# EAGLE library part L834-1G1T-S7 (library Modular Jacks)
CONN MAGJACK 1PORT 1000 BASE-T Manufacturer's datasheet <https://belfuse.com/resources/drawings/magneticsolutions/dr-mag-l834-1g1t-s7.pdf>
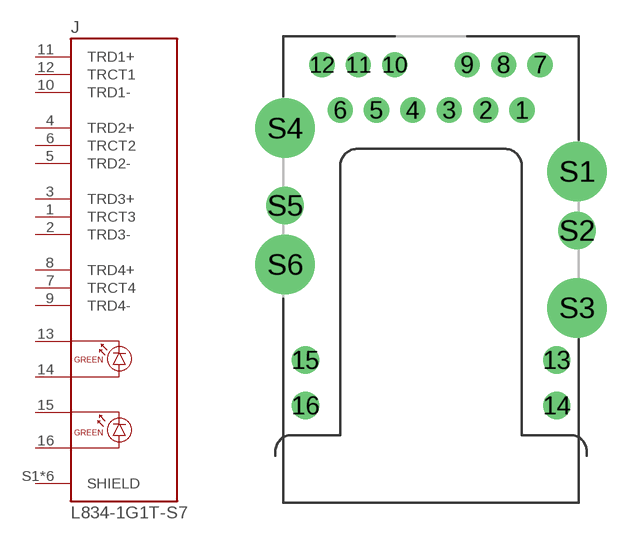
[diagram p0: symbol with the pads of L834-1G1T-S7; footprint L834-1G1T-S7]

Designator prefix J

## L834-1G1T-S7 (CREATED_BY: PCBLayout.com; DIGIKEY_PN: 380-1111-ND; MANUFACTURER: Bel Fuse Inc.; MPN: L834-1G1T-S7)  [L834-1G1T-S7]
1  TRCT3  pas
2  TRD3-  pas
3  TRD3+  pas
4  TRD2+  pas
5  TRD2-  pas
6  TRCT2  pas
7  TRCT4  pas
8  TRD4+  pas
9  TRD4-  pas
10  TRD1-  pas
11  TRD1+  pas
12  TRCT1  pas
13  GRN-_13  pas
14  GRN+_14  pas
15  GRN-_15  pas
16  GRN+_16  pas
S1  SHIELD  pwr
S2  SHIELD  pwr
S3  SHIELD  pwr
S4  SHIELD  pwr
S5  SHIELD  pwr
S6  SHIELD  pwr

## Footprint L834-1G1T-S7 (pad centres in mm)
drill 0.9: 1 5.08,6.73; 2 3.05,6.73; 3 1.02,6.73; 4 -1.02,6.73; 5 -3.05,6.73; 6 -5.08,6.73; 7 6.09,9.27; 8 4.06,9.27; 9 2.03,9.27; 10 -2.03,9.27; 11 -4.06,9.27; 12 -6.09,9.27
drill 1.02: 13 7.025,-7.24; 14 7.025,-9.78; 15 -7.025,-7.24; 16 -7.025,-9.78
drill 2.31: S1 8.155,3.3; S3 8.155,-4.32; S4 -8.155,5.72; S6 -8.155,-1.9
drill 1.4: S2 8.155,0; S5 -8.155,1.4